# EAGLE library part FEATHER-OLED (library OPNpool)
Package buttons position and size approximate
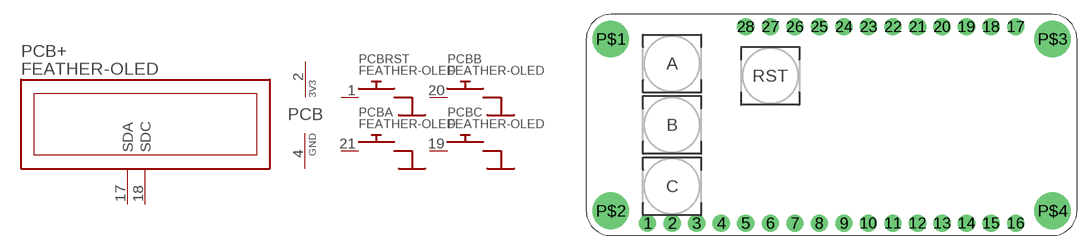
[diagram p6: symbol with the pads of FEATHER-OLED; footprint FEATHER-OLED]

Designator prefix PCB; gates +=FEATHER-OLED-SCREEN P=3V3-GND RST=SWITCH_PUSHBTN_GND A=SWITCH_PUSHBTN_GND B=SWITCH_PUSHBTN_GND C=SWITCH_PUSHBTN_GND

## FEATHER-OLED  [FEATHER-OLED]
1  RST:P$1  pas
2  P:VCC  pas
4  P:GND  sup
17  +:SDA
18  +:SDC
19  C:P$1  pas
20  B:P$1  pas
21  A:P$1  pas

## Footprint FEATHER-OLED (pad centres in mm)
Buttons approximate size and position
drill 1 pad 1.778: 1 6.35,1.27; 2 8.89,1.27; 3 11.43,1.27; 4 13.97,1.27; 5 16.51,1.27; 6 19.05,1.27; 7 21.59,1.27; 8 24.13,1.27; 9 26.67,1.27; 10 29.21,1.27; 11 31.75,1.27; 12 34.29,1.27; 13 36.83,1.27; 14 39.37,1.27; 15 41.91,1.27; 16 44.45,1.27; 17 44.45,21.59; 18 41.91,21.59; 19 39.37,21.59; 20 36.83,21.59; 21 34.29,21.59; 22 31.75,21.59; 23 29.21,21.59; 24 26.67,21.59; 25 24.13,21.59; 26 21.59,21.59; 27 19.05,21.59; 28 16.51,21.59
drill 2.5 pad 3.81: P$1 2.54,20.32; P$2 2.54,2.54; P$3 48.26,20.32; P$4 48.26,2.54